# Altium footprint library ds1099_wn0.PcbLib: 1 footprints
Each footprint in its own frame and in the unit in brackets; x right, y up, seen from the top. Pads: shape width x height; smd on the part's side, far side on the other; paste and mask are expansions set on the pad; w line width, h text height; cw(c..) or ccw(c..) is an arc to the next point about the centre after c.
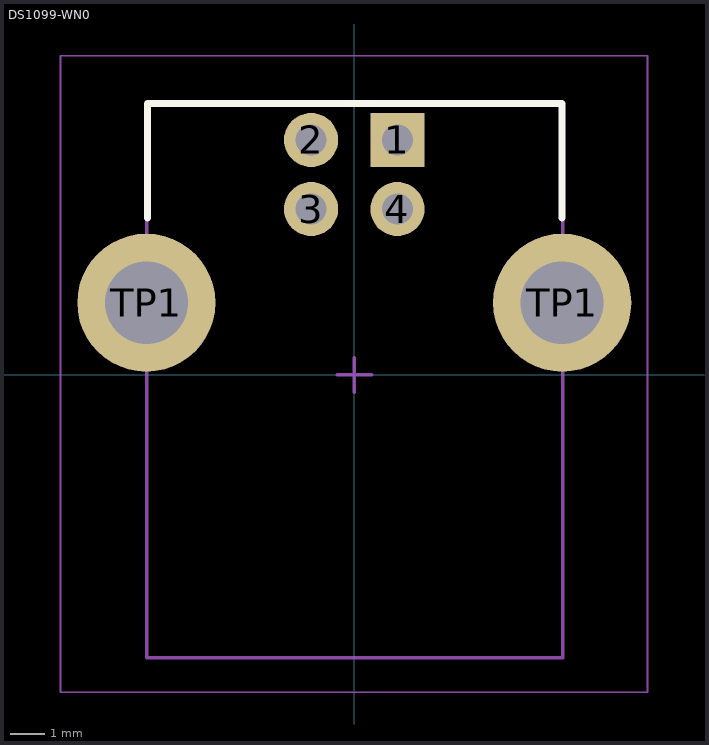
[diagram p0: the footprint, top view; thin cyan lines are the x and y axes]

## DS1099-WN0 [mm] "USB 2.0 Type B Female R/A Type"
height 11
pads (6):
  rect 1.57x1.57 hole 0.9: 1(1.25,6.8)
  round 1.57 hole 0.9: 2(-1.25,6.8) 3(-1.25,4.8) 4(1.25,4.8)
  round 4 hole 2.4: TP1(-6.02,2.088) TP1(6.02,2.088)
Top Overlay:
  lines w0.2: -5.988,4.537 -5.988,7.862 6.012,7.862 6.012,4.537
Top Comment:
  text ".Comment" at 1,10 h1.2
Top Designator:
  text ".Designator" at -0.5,10 h1.2
Top Component Outline:
  lines w0.1: -6.008,-8.188 6.032,-8.188 6.032,7.862 -6.008,7.862 -6.008,-8.188
Top Courtyard:
  lines w0.05: -8.508,-9.188 8.492,-9.188 8.492,9.237 -8.508,9.237 -8.508,-9.188
  lines w0.1: -0.5,0 0.5,0 ; 0,-0.5 0,0.5
3D body "User Library-Samtec - USB-B-S-X-W-TH.STEP": height 11, standoff -3.64, extent -7.399,-8.275 7.399,8.225